# EAGLE library part APA102 (library jasons_stuff)
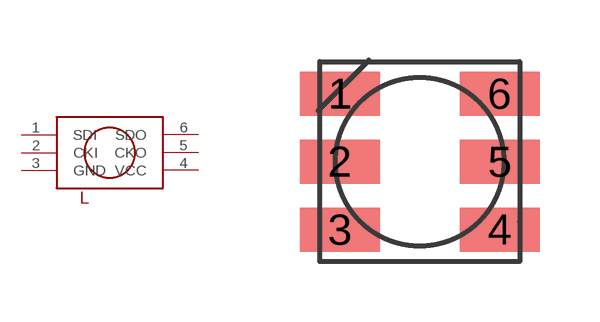
[diagram p50: symbol with the pads of APA102; footprint APA102]

Designator prefix L

## APA102  [APA102]
1  SDI
2  CKI
3  GND  pwr
4  VCC  pwr
5  CKO
6  SDO

## Footprint APA102 (pad centres in mm)
smd 2 x 1.1: 1 -2,1.7; 2 -2,0; 3 -2,-1.7; 4 2,-1.7; 5 2,0; 6 2,1.7